# Altium footprint library ON Semi General Purpose Transistors.PcbLib: 66 footprints (part 1 of 5)
Each footprint in its own frame and in the unit in brackets; x right, y up, seen from the top. Pads: shape width x height; smd on the part's side, far side on the other; paste and mask are expansions set on the pad; w line width, h text height; cw(c..) or ccw(c..) is an arc to the next point about the centre after c.
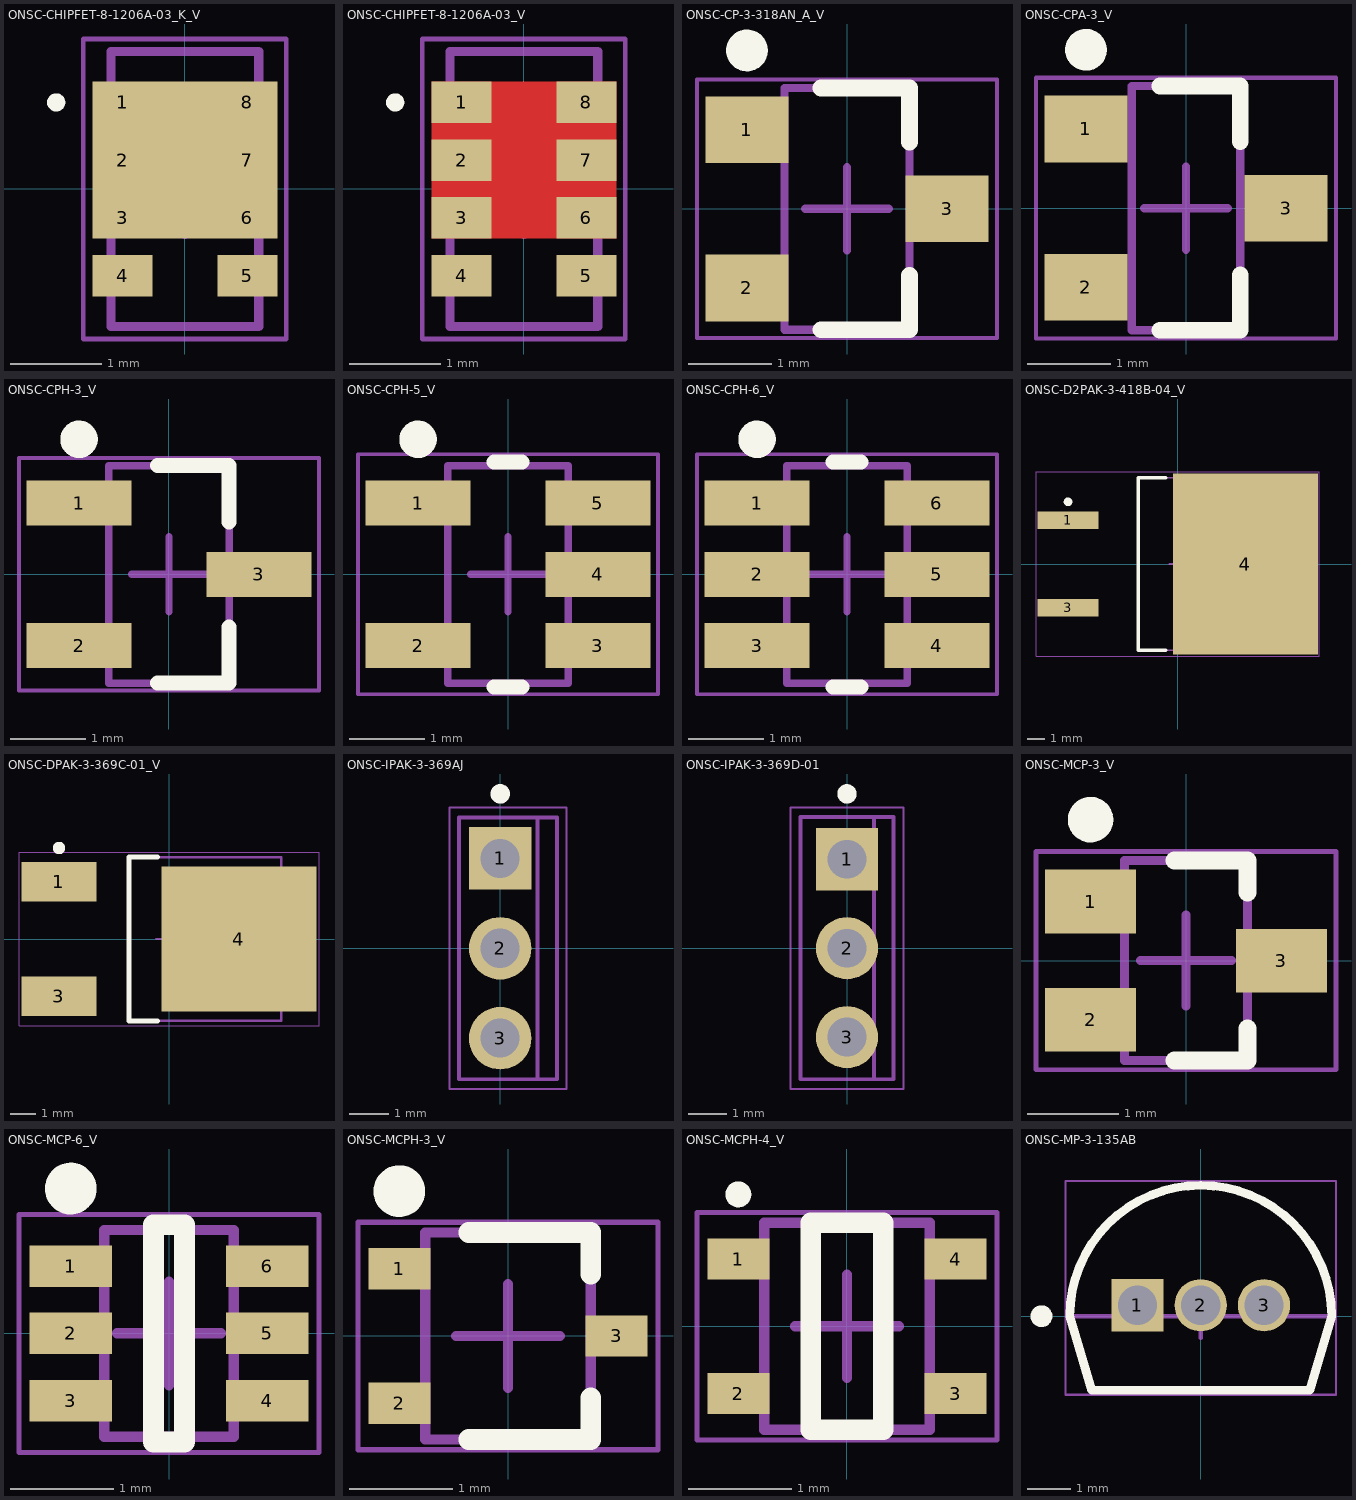
[diagram p0: the footprints below, top view; thin cyan lines are the x and y axes]

## ONSC-CHIPFET-8-1206A-03_K_V [mil] "SON, 8-Leads, Body 3.026x1.626mm, Pitch 0.65mm"
height 43.31
pads (9):
  rect 25.98x17.99 smd: 1(-27.01,37.5) 2(-27.01,12.5) 3(-27.01,-12.5) 4(-27.01,-37.5) 5(27.01,-37.5) 6(27.01,-12.5) 7(27.01,12.5) 8(27.01,37.5)
  rect 80x67.99 smd: ""(0,12.5)
Top Overlay:
  circle w3.94: c-55.75,37.5 r1.97
Mechanical 13:
  lines w3.94: -31.99,-59.55 -31.99,59.57 31.99,59.57 31.99,-59.55 -31.99,-59.55
Mechanical 15:
  lines w1.97: -43.94,-64.96 -43.94,64.96 43.94,64.96 43.94,-64.96 -43.94,-64.96
  lines w3.94: -19.68,0 19.69,0 ; 0,-19.69 0,19.68
3D body: height 43.31, standoff 0, extent -31.99,-59.55 31.99,59.55

## ONSC-CHIPFET-8-1206A-03_V [mm] "SON, 8-Leads, Body 3.026x1.626mm, Pitch 0.635mm"
height 1.1
pads (8):
  rect 0.66x0.457 smd: 1(-0.686,0.953) 2(-0.686,0.318) 3(-0.686,-0.318) 4(-0.686,-0.953) 5(0.686,-0.953) 6(0.686,-0.318) 7(0.686,0.318) 8(0.686,0.953)
Top Layer:
  rectangle: -1.016,-0.546 1.016,1.181
Top Overlay:
  circle w0.1: c-1.416,0.953 r0.05
Mechanical 13:
  lines w0.1: -0.812,-1.513 0.813,-1.513 0.813,1.513 -0.812,1.513 -0.812,-1.513
Mechanical 15:
  lines w0.05: -1.116,-1.65 1.116,-1.65 1.116,1.65 -1.116,1.65 -1.116,-1.65
  lines w0.1: -0.5,0 0.5,0 ; 0,-0.5 0,0.5
3D body: height 1.1, standoff 0, extent -0.812,-1.513 0.813,1.512

## ONSC-CP-3-318AN_A_V [mm] "SOT23, 3-Leads, Body 2.9x1.5mm, Pitch 0.95mm"
height 1.308
pads (3):
  rect 1x0.8 smd: 1(-1.2,0.95) 2(-1.2,-0.95) 3(1.2,0)
Top Overlay:
  circle w0.25: c-1.2,1.9 r0.125
  lines w0.2: -0.313,-1.45 0.75,-1.45 0.75,-0.8 ; -0.313,1.45 0.75,1.45 0.75,0.8
Mechanical 13:
  lines w0.1: -0.75,-1.45 -0.75,1.45 0.75,1.45 0.75,-1.45 -0.75,-1.45
Mechanical 15:
  lines w0.05: -1.8,-1.55 -1.8,1.55 1.8,1.55 1.8,-1.55 -1.8,-1.55
  lines w0.1: -0.5,0 0.5,0 ; 0,-0.5 0,0.5
3D body: height 1.31, standoff 0, extent -0.75,-1.45 0.75,1.45

## ONSC-CPA-3_V [mm] "SOT23, 3-Leads, Body 2.93x1.3mm, Pitch 0.95mm"
height 1.3
pads (3):
  rect 1x0.8 smd: 1(-1.2,0.95) 2(-1.2,-0.95) 3(1.2,0)
Top Overlay:
  circle w0.25: c-1.2,1.9 r0.125
  lines w0.2: -0.317,-1.465 0.65,-1.465 0.65,-0.797 ; -0.317,1.465 0.65,1.465 0.65,0.797
Mechanical 13:
  lines w0.1: -0.65,-1.465 0.65,-1.465 0.65,1.465 -0.65,1.465 -0.65,-1.465
Mechanical 15:
  lines w0.05: -1.8,-1.565 -1.8,1.565 1.8,1.565 1.8,-1.565 -1.8,-1.565
  lines w0.1: -0.5,0 0.5,0 ; 0,-0.5 0,0.5
3D body: height 1.3, standoff 0, extent -0.65,-1.465 0.65,1.465

## ONSC-CPH-3_V [mm] "SOT23, 3-Leads, Body 2.9x1.6mm, Pitch 0.95mm"
height 1.05
pads (3):
  rect 1.4x0.6 smd: 1(-1.2,0.95) 2(-1.2,-0.95) 3(1.2,0)
Top Overlay:
  circle w0.25: c-1.2,1.8 r0.125
  lines w0.2: -0.154,-1.45 0.8,-1.45 0.8,-0.7 ; -0.154,1.45 0.8,1.45 0.8,0.7
Mechanical 13:
  lines w0.1: -0.8,-1.45 -0.8,1.45 0.8,1.45 0.8,-1.45 -0.8,-1.45
Mechanical 15:
  lines w0.05: -2,-1.55 -2,1.55 2,1.55 2,-1.55 -2,-1.55
  lines w0.1: -0.5,0 0.5,0 ; 0,-0.5 0,0.5
3D body: height 1.05, standoff 0, extent -0.8,-1.45 0.8,1.45

## ONSC-CPH-5_V [mm] "SOT23, 5-Leads, Body 2.9x1.6mm, Pitch 0.95mm"
height 1.02
pads (5):
  rect 1.4x0.6 smd: 1(-1.2,0.95) 2(-1.2,-0.95) 3(1.2,-0.95) 4(1.2,0) 5(1.2,0.95)
Top Overlay:
  circle w0.25: c-1.2,1.8 r0.125
  lines w0.2: -0.188,-1.5 0.188,-1.5 ; -0.188,1.5 0.188,1.5
Mechanical 13:
  lines w0.1: -0.8,-1.45 0.8,-1.45 0.8,1.45 -0.8,1.45 -0.8,-1.45
Mechanical 15:
  lines w0.05: -2,-1.6 2,-1.6 2,1.6 -2,1.6 -2,-1.6
  lines w0.1: -0.5,0 0.5,0 ; 0,-0.5 0,0.5
3D body: height 1.02, standoff 0, extent -0.8,-1.45 0.8,1.45

## ONSC-CPH-6_V [mm] "SOT23, 6-Leads, Body 2.9x1.6mm, Pitch 0.95mm"
height 1.02
pads (6):
  rect 1.4x0.6 smd: 1(-1.2,0.95) 2(-1.2,0) 3(-1.2,-0.95) 4(1.2,-0.95) 5(1.2,0) 6(1.2,0.95)
Top Overlay:
  circle w0.25: c-1.2,1.8 r0.125
  lines w0.2: -0.188,-1.5 0.188,-1.5 ; -0.188,1.5 0.188,1.5
Mechanical 13:
  lines w0.1: -0.8,-1.45 0.8,-1.45 0.8,1.45 -0.8,1.45 -0.8,-1.45
Mechanical 15:
  lines w0.05: -2,-1.6 2,-1.6 2,1.6 -2,1.6 -2,-1.6
  lines w0.1: -0.5,0 0.5,0 ; 0,-0.5 0,0.5
3D body: height 1.02, standoff 0, extent -0.8,-1.45 0.8,1.45

## ONSC-D2PAK-3-418B-04_V [mm] "DPAK, 3-Leads, Body 9.97x9.145mm, Pitch 2.54mm"
height 4.83
pads (3):
  rect 3.504x1.016 smd: 1(-6.35,2.54) 3(-6.35,-2.54)
  rect 8.38x10.49 smd: 4(3.9,0)
Top Overlay:
  circle w0.25: c-6.35,3.598 r0.125
  lines w0.2: -0.69,-4.985 -2.3,-4.985 -2.3,4.985 -0.69,4.985
Mechanical 13:
  lines w0.1: -2.3,-4.985 6.845,-4.985 6.845,4.985 -2.3,4.985 -2.3,-4.985
Mechanical 15:
  lines w0.05: -8.202,-5.345 8.19,-5.345 8.19,5.345 -8.202,5.345 -8.202,-5.345
  lines w0.1: -0.5,0 0.5,0 ; 0,-0.5 0,0.5
3D body: height 4.83, standoff 0, extent -2.3,-4.985 6.845,4.985

## ONSC-DPAK-3-369C-01_V [mm] "DPAK, 3-Leads, Body 6.54x6.095mm, Pitch 2.29mm"
height 2.38
pads (3):
  rect 3x1.6 smd: 1(-4.4,2.29) 3(-4.4,-2.29)
  rect 6.2x5.8 smd: 4(2.8,0)
Top Overlay:
  circle w0.25: c-4.4,3.64 r0.125
  lines w0.2: -0.453,-3.27 -1.6,-3.27 -1.6,3.27 -0.453,3.27
Mechanical 13:
  lines w0.1: -1.6,-3.27 4.495,-3.27 4.495,3.27 -1.6,3.27 -1.6,-3.27
Mechanical 15:
  lines w0.05: -6,-3.465 6,-3.465 6,3.465 -6,3.465 -6,-3.465
  lines w0.1: -0.5,0 0.5,0 ; 0,-0.5 0,0.5
3D body: height 2.38, standoff 0, extent -1.6,-3.27 4.495,3.27

## ONSC-IPAK-3-369AJ [mm] "FM, 3-Leads, Body 6.7x2.5mm, Pitch 2.3mm"
height 9.1
pads (3):
  rect 1.6x1.6 hole 1: 1(0,2.3)
  round 1.6 hole 1: 2(0,0) 3(0,-2.3)
Top Overlay:
  circle w0.25: c0,3.95 r0.125
Mechanical 13:
  lines w0.1: 0.95,-3.35 0.95,3.35 ; -1.05,-3.35 1.45,-3.35 1.45,3.35 -1.05,3.35 -1.05,-3.35
Mechanical 15:
  lines w0.05: -1.3,-3.6 1.7,-3.6 1.7,3.6 -1.3,3.6 -1.3,-3.6
  lines w0.1: -0.5,0 0.5,0 ; 0,-0.5 0,0.5
3D body: height 9.1, standoff 7.6, extent 0.95,-2.5 1.45,2.5
3D body: height 7.6, standoff 1.4, extent -1.05,-3.35 1.45,3.35
3D body: height 0, standoff -1.6, extent -0.25,-2.6 0.25,-2
3D body: height 1.4, standoff 0, extent -0.25,-2.725 0.25,-1.875
3D body: height 0, standoff -1.6, extent -0.25,-0.3 0.25,0.3
3D body: height 1.4, standoff 0, extent -0.25,-0.425 0.25,0.425
3D body: height 0, standoff -1.6, extent -0.25,2 0.25,2.6
3D body: height 1.4, standoff 0, extent -0.25,1.875 0.25,2.725

## ONSC-IPAK-3-369D-01 [mm] "FM, 3-Leads, Body 6.75x2.4mm, Pitch 2.29mm"
height 8.52
pads (3):
  rect 1.6x1.6 hole 1: 1(0,2.29)
  round 1.6 hole 1: 2(0,0) 3(0,-2.29)
Top Overlay:
  circle w0.25: c0,3.975 r0.125
Mechanical 13:
  lines w0.1: 0.7,-3.375 0.7,3.375 ; -1.2,-3.375 -1.2,3.375 1.2,3.375 1.2,-3.375 -1.2,-3.375
Mechanical 15:
  lines w0.05: -1.45,-3.625 -1.45,3.625 1.45,3.625 1.45,-3.625 -1.45,-3.625
  lines w0.1: -0.5,0 0.5,0 ; 0,-0.5 0,0.5
3D body: height 0.06, standoff 0, extent -0.26,1.77 0.26,2.81
3D body: height 0.58, standoff 0.06, extent -0.26,1.77 0.26,2.81
3D body: height 0.63, standoff 0.58, extent -0.26,1.77 0.26,2.81
3D body: height 0, standoff -1.6, extent -0.26,1.895 0.26,2.685
3D body: height 0.06, standoff 0, extent -0.26,-0.52 0.26,0.52
3D body: height 0.58, standoff 0.06, extent -0.26,-0.52 0.26,0.52
3D body: height 0.63, standoff 0.58, extent -0.26,-0.52 0.26,0.52
3D body: height 0, standoff -1.6, extent -0.26,-0.395 0.26,0.395
3D body: height 0.06, standoff 0, extent -0.26,-2.81 0.26,-1.77
3D body: height 0.58, standoff 0.06, extent -0.26,-2.81 0.26,-1.77
3D body: height 0.63, standoff 0.58, extent -0.26,-2.81 0.26,-1.77
3D body: height 0, standoff -1.6, extent -0.26,-2.685 0.26,-1.895
3D body: height 7.42, standoff 0.63, extent -1.2,-3.375 1.2,3.375
3D body: height 8.52, standoff 7.42, extent 0.7,-2.475 1.2,2.475

## ONSC-MCP-3_V [mm] "SOT23, 3-Leads, Body 2.2x1.35mm, Pitch 0.65mm"
height 1.05
pads (3):
  rect 1x0.7 smd: 1(-1.05,0.65) 2(-1.05,-0.65) 3(1.05,0)
Top Overlay:
  circle w0.25: c-1.05,1.55 r0.125
  lines w0.2: -0.125,-1.1 0.675,-1.1 0.675,-0.75 ; -0.125,1.1 0.675,1.1 0.675,0.75
Mechanical 13:
  lines w0.1: -0.675,-1.1 -0.675,1.1 0.675,1.1 0.675,-1.1 -0.675,-1.1
Mechanical 15:
  lines w0.05: -1.65,-1.2 -1.65,1.2 1.65,1.2 1.65,-1.2 -1.65,-1.2
  lines w0.1: -0.5,0 0.5,0 ; 0,-0.5 0,0.5
3D body: height 1.05, standoff 0, extent -0.675,-1.1 0.675,1.1

## ONSC-MCP-6_V [mm] "SOT23, 6-Leads, Body 2x1.25mm, Pitch 0.65mm"
height 1.08
pads (6):
  rect 0.8x0.4 smd: 1(-0.95,0.65) 2(-0.95,0) 3(-0.95,-0.65) 4(0.95,-0.65) 5(0.95,0) 6(0.95,0.65)
Top Overlay:
  circle w0.25: c-0.95,1.4 r0.125
  lines w0.2: -0.15,-1.05 -0.15,1.05 0.15,1.05 0.15,-1.05 -0.15,-1.05
Mechanical 13:
  lines w0.1: -0.625,-1 0.625,-1 0.625,1 -0.625,1 -0.625,-1
Mechanical 15:
  lines w0.05: -1.45,-1.15 1.45,-1.15 1.45,1.15 -1.45,1.15 -1.45,-1.15
  lines w0.1: -0.5,0 0.5,0 ; 0,-0.5 0,0.5
3D body: height 1.08, standoff 0, extent -0.625,-1 0.625,1

## ONSC-MCPH-3_V [mm] "SOT23, 3-Leads, Body 2x1.6mm, Pitch 0.65mm"
height 0.9
pads (3):
  rect 0.6x0.4 smd: 1(-1.05,0.65) 2(-1.05,-0.65) 3(1.05,0)
Top Overlay:
  circle w0.25: c-1.05,1.4 r0.125
  lines w0.2: -0.379,-1 0.8,-1 0.8,-0.6 ; -0.379,1 0.8,1 0.8,0.6
Mechanical 13:
  lines w0.1: -0.8,-1 -0.8,1 0.8,1 0.8,-1 -0.8,-1
Mechanical 15:
  lines w0.05: -1.45,-1.1 -1.45,1.1 1.45,1.1 1.45,-1.1 -1.45,-1.1
  lines w0.1: -0.5,0 0.5,0 ; 0,-0.5 0,0.5
3D body: height 0.9, standoff 0, extent -0.8,-1 0.8,1

## ONSC-MCPH-4_V [mm] "SOT23, 4-Leads, Body 2x1.6mm, Pitch 0.65mm"
height 0.9
pads (4):
  rect 0.6x0.4 smd paste-0.06: 1(-1.05,0.65) 2(-1.05,-0.65) 3(1.05,-0.65) 4(1.05,0.65)
Top Overlay:
  circle w0.125: c-1.05,1.275 r0.062
  lines w0.2: -0.35,-1 0.35,-1 0.35,1 -0.35,1 -0.35,-1
Mechanical 13:
  lines w0.1: -0.8,-1 -0.8,1 0.8,1 0.8,-1 -0.8,-1
Mechanical 15:
  lines w0.05: -1.45,-1.1 -1.45,1.1 1.45,1.1 1.45,-1.1 -1.45,-1.1
  lines w0.1: -0.5,0 0.5,0 ; 0,-0.5 0,0.5
3D body: height 0.9, standoff 0, extent -0.8,-1 0.8,1

## ONSC-MP-3-135AB [mm] "MP, 3-Leads, Body Dia 6 mm, Pitch 1.45mm"
height 11.5
pads (3):
  rect 1.2x1.2 hole 0.9: 1(-1.45,0.25)
  round 1.2 hole 0.9: 2(0,0.25) 3(1.45,0.25)
Top Overlay:
  circle w0.25: c-3.65,0 r0.125
  lines w0.2: -3,0 cw(c0,0) 3,0 2.5,-1.7 -2.5,-1.7 -3,0
Mechanical 13:
  lines w0.1: -3,0 cw(c0,0) 3,0 ; -3,0 -2.5,-1.7 2.5,-1.7 3,0 ; -3,0 3,0
Mechanical 15:
  lines w0.05: -3.1,-1.8 -3.1,3.1 3.1,3.1 3.1,-1.8 -3.1,-1.8
  lines w0.1: -0.5,0 0.5,0 ; 0,-0.5 0,0.5
3D body: height 11.5, standoff 3, extent -3.001,-1.701 3.001,0.001
3D body: height 11.5, standoff 3, extent -3.001,-0.001 3.001,3.001